# EAGLE library part PCF8574ADW (library PCF8574ADW)
Check prices <https://pricing.snapeda.com/parts/PCF8574ADW/Texas%20Instruments/view-part?ref=eda>
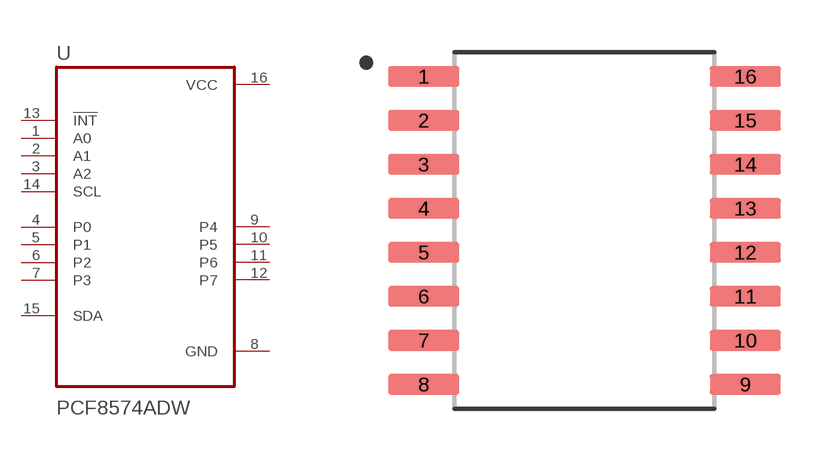
[diagram p0: symbol with the pads of SOIC127P1030X265-16N; footprint SOIC127P1030X265-16N]

Designator prefix U

## PCF8574ADW (AVAILABILITY: Warning; DESCRIPTION: Remote 8-Bit I/O Expander for I2C-Bus 16-SOIC -40 to 85; MF: Texas Instruments; MP: PCF8574ADW; PACKAGE: SOIC-16 Texas Instruments; PRICE: None; PURCHASE-URL: https://pricing.snapeda.com/search/part/PCF8574ADW/?ref=eda)  [SOIC127P1030X265-16N]
1  A0  in
2  A1  in
3  A2  in
4  P0
5  P1
6  P2
7  P3
8  GND  pwr
9  P4
10  P5
11  P6
12  P7
13  !INT  in
14  SCL  in
15  SDA
16  VCC  pwr

## Footprint SOIC127P1030X265-16N (pad centres in mm)
smd 2.06 x 0.6: 1 -4.64,4.445; 2 -4.64,3.175; 3 -4.64,1.905; 4 -4.64,0.635; 5 -4.64,-0.635; 6 -4.64,-1.905; 7 -4.64,-3.175; 8 -4.64,-4.445; 9 4.64,-4.445; 10 4.64,-3.175; 11 4.64,-1.905; 12 4.64,-0.635; 13 4.64,0.635; 14 4.64,1.905; 15 4.64,3.175; 16 4.64,4.445